# Altium schematic symbol library LM2852.SchLib: 1 symbol
Pins are listed as number, name and electrical type; pins without a type are passive.

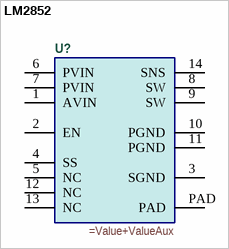
[diagram p0: symbol LM2852]

## LM2852
designator U?
=Description
pins: 1 AVIN (power), 2 EN, 3 SGND (power), 4 SS, 5 NC, 6 PVIN (power), 7 PVIN (power), 8 SW (power), 9 SW (power), 10 PGND (power), 11 PGND (power), 12 NC, 13 NC, 14 SNS (power), PAD (power)